# Altium schematic symbol library ADT7310.Schlib: 1 symbol
Pins are listed as number, name and electrical type; pins without a type are passive.

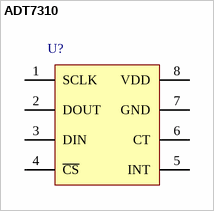
[diagram p0: symbol ADT7310]

## ADT7310
designator U?  (value not drawn)
+/-0.5°C Accurate, 16-bit Digital SPI Temperature Sensor
pins: 1 SCLK, 2 DOUT, 3 DIN, 4 ~{CS}, 5 INT, 6 CT, 7 GND, 8 VDD